# EAGLE library part LT3030 (library gwu_mpnl_ucat_v10 (Samudra Haque N3RDX's conflicted copy 2014-11-27))
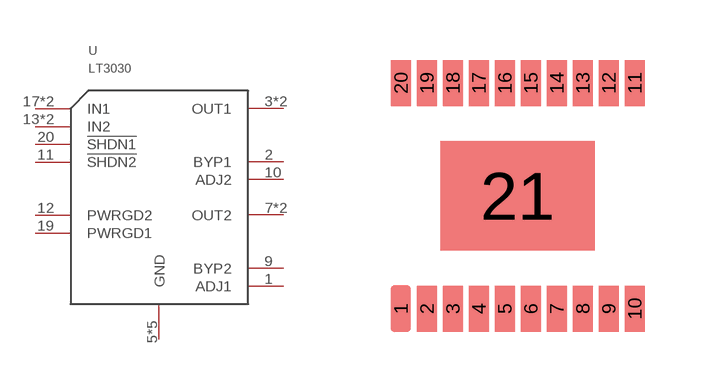
[diagram p14: symbol with the pads of TSSOP20-FE-CB; footprint TSSOP20-FE-CB]

Designator prefix U

## LT3030MPFE#PBF (MF: LINEAR; MPN: LT3030MPFE#TRPBF)  [TSSOP20-FE-CB]
1  ADJ1
2  BYP1
3  OUT1
4  OUT1
5  GND
6  GND
7  OUT2
8  OUT2
9  BYP2
10  ADJ2
11  !SHDN2
12  PWRGD2
13  IN2
14  IN2
15  GND
16  GND
17  IN1
18  IN1
19  PWRGD1
20  !SHDN1
21  GND

## Footprint TSSOP20-FE-CB (pad centres in mm)
smd 0.5 x 1.15: 1 0,0; 2 0.65,0; 3 1.3,0; 4 1.95,0; 5 2.6,0; 6 3.25,0; 7 3.9,0; 8 4.55,0; 9 5.2,0; 10 5.85,0; 11 5.85,5.65; 12 5.2,5.65; 13 4.55,5.65; 14 3.9,5.65; 15 3.25,5.65; 16 2.6,5.65; 17 1.95,5.65; 18 1.3,5.65; 19 0.65,5.65; 20 0,5.65
smd 3.862 x 2.74: 21 2.925,2.825